# Altium schematic symbol library SamacSys.SchLib: 4 symbols
Pins are listed as number, name and electrical type; pins without a type are passive.

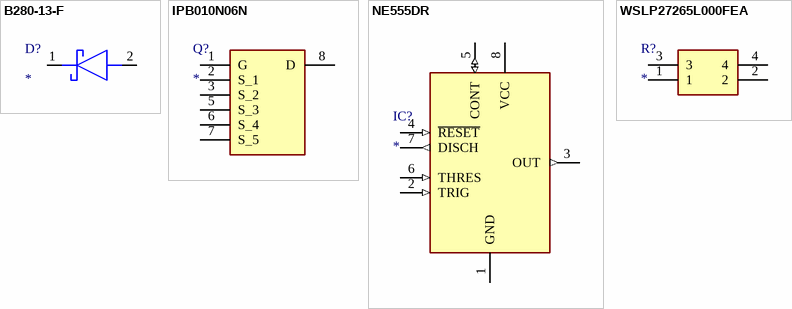
[diagram p0: symbols B280-13-F to WSLP27265L000FEA]

## B280-13-F
designator D?
Schottky Diode; Manufacturer_Name: Diodes Incorporated; Manufacturer_Part_Number: B280-13-F; Description: Diodes Inc B280-13-F; Datasheet Link: https://www.diodes.com/assets/Datasheets/ds30021.pdf; Height: 2.5mm; Mouser Part Number: 621-B280-13-F; Mouser Price/Stock: https://www.mouser.com/Search/Refine.aspx?Keyword=621-B280-13-F; Arrow Part Number: B280-13-F; Arrow Price/Stock: https://www.arrow.com/en/products/b280-13-f/diodes-incorporated
footprint DIOM5336X250N
pins: 1 K, 2 A

## IPB010N06N
designator Q?
MOSFET (N-Channel); Manufacturer_Name: Infineon; Manufacturer_Part_Number: IPB010N06N; Datasheet Link: https://www.infineon.com/dgdl/Infineon-IPB010N06N-DS-v02_04-EN.pdf?fileId=db3a3043353fdc1601355341f17a485f; Mouser Part Number: 726-IPB010N06N; Mouser Price/Stock: https://www.mouser.co.uk/ProductDetail/Infineon-Technologies/IPB010N06N?qs=EUA%2Fg8wssK3txpgcjG7wiw%3D%3D
footprint PG-TO263-7-3_3
pins: 1 G, 2 S_1, 3 S_2, 5 S_3, 6 S_4, 7 S_5, 8 D

## NE555DR
designator IC?
Integrated Circuit; Manufacturer_Name: Texas Instruments; Manufacturer_Part_Number: NE555DR; Datasheet Link: http://www.ti.com/lit/ds/symlink/ne555.pdf; Height: 1.75mm; Mouser Part Number: 595-NE555DR; Mouser Price/Stock: https://www.mouser.com/Search/Refine.aspx?Keyword=595-NE555DR; RS Part Number: 1218414; RS Price/Stock: http://uk.rs-online.com/web/p/products/1218414
footprint SOIC127P600X175-8N
pins: 1 GND (power), 2 TRIG (in), 3 OUT (out), 4 ~{RESET} (in), 5 CONT (io), 6 THRES (in), 7 DISCH (out), 8 VCC (power)

## WSLP27265L000FEA
designator R?
Resistor; Manufacturer_Name: Vishay; Manufacturer_Part_Number: WSLP27265L000FEA; Datasheet Link: https://componentsearchengine.com/Datasheets/1/WSLP27265L000FEA.pdf; Height: 2.81mm; Mouser Part Number: 71-WSLP27265L000FEA; Mouser Price/Stock: https://www.mouser.co.uk/ProductDetail/Vishay-Dale/WSLP27265L000FEA?qs=h6V4JsTaLXeHJBxiH6kbIg%3D%3D
footprint WSLP27265L000FEA
pins: 1, 2, 3, 4